# Altium schematic symbol library SF12011F-0102-20R-M-050.SchLib: 1 symbol
Pins are listed as number, name and electrical type; pins without a type are passive.

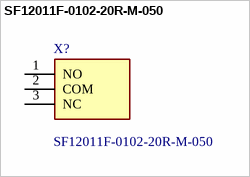
[diagram p0: symbol SF12011F-0102-20R-M-050]

## SF12011F-0102-20R-M-050
designator X?
Pushbutton Switches 1 pole 2 positions momentary switch; Manufacturer_Name: Alpha (Taiwan); Geometry.Height: 33.5mm; Mouser Part Number: 107-SF12011F-102-M; Mouser Price/Stock: https://www.mouser.co.uk/ProductDetail/Alpha-Taiwan/SF12011F-0102-20R-M-050?qs=IPgv5n7u5QYt4g%252Bq%2FbHblQ%3D%3D; Manufacturer_Part_Number: SF12011F-0102-20R-M-050; Datasheet Link: http://www.taiwanalpha.com/downloads?target=products&id=324
footprint SF12011F010220RM050
pins: 1 NO, 2 COM, 3 NC